# Altium footprint library Linear Technology Operational Amplifiers (LT1000).PcbLib: 46 footprints (part 3 of 3)
Each footprint in its own frame and in the unit in brackets; x right, y up, seen from the top. Pads: shape width x height; smd on the part's side, far side on the other; paste and mask are expansions set on the pad; w line width, h text height; cw(c..) or ccw(c..) is an arc to the next point about the centre after c.
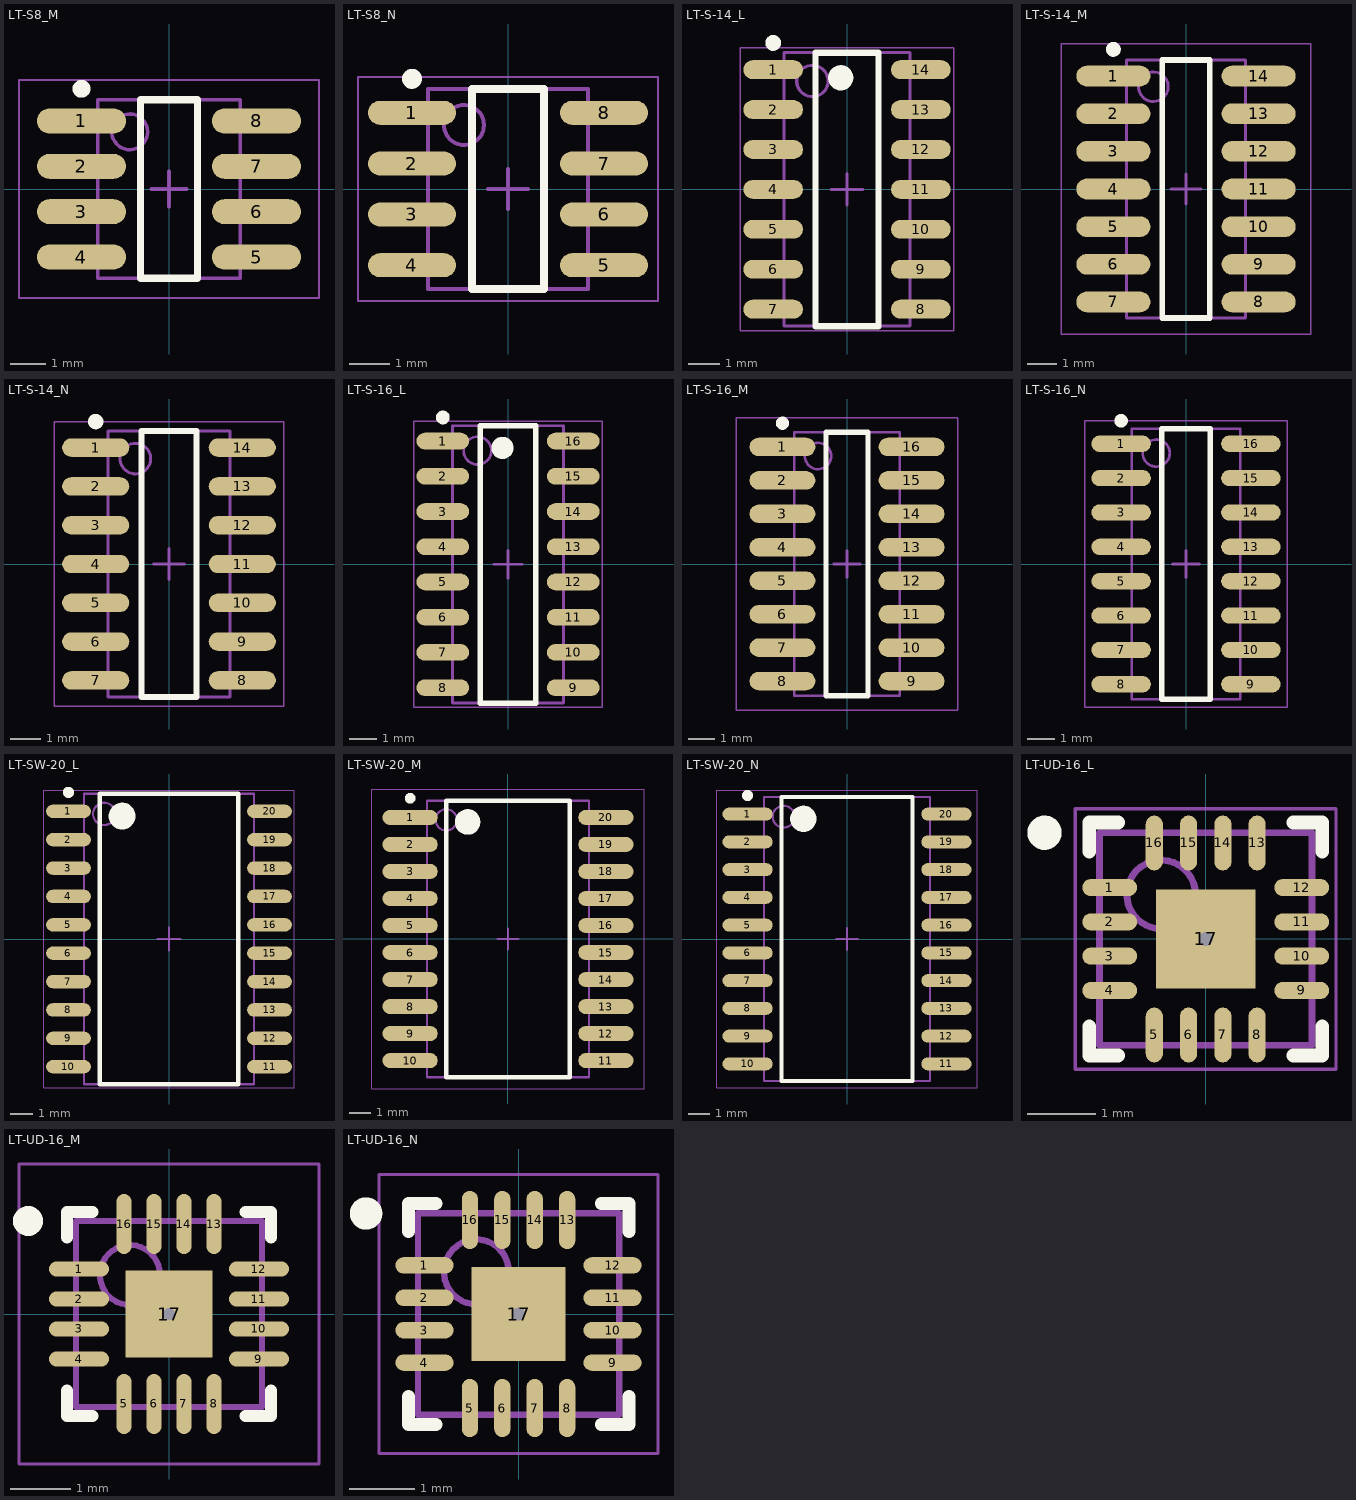
[diagram p2: the footprints below, top view; thin cyan lines are the x and y axes]

## LT-S8_M [mm] "SOP, 8-Leads, Body 4.9x3.9mm, Pitch 1.27mm, IPC Low Density"
height 1.76
pads (8):
  oval 2.5x0.7 smd: 1(-2.45,1.905) 2(-2.45,0.635) 3(-2.45,-0.635) 4(-2.45,-1.905) 5(2.45,-1.905) 6(2.45,-0.635) 7(2.45,0.635) 8(2.45,1.905)
Top Overlay:
  circle w0.25: c-2.45,2.805 r0.125
  lines w0.2: -0.8,-2.5 0.8,-2.5 0.8,2.5 -0.8,2.5 -0.8,-2.5
Mechanical 13:
  circle w0.1: c-1.1,1.6 r0.5
  lines w0.1: -2,-2.5 2,-2.5 2,2.5 -2,2.5 -2,-2.5
Mechanical 15:
  lines w0.05: -4.2,-3.05 4.2,-3.05 4.2,3.05 -4.2,3.05 -4.2,-3.05
  lines w0.1: -0.5,0 0.5,0 ; 0,-0.5 0,0.5
3D body: height 1.76, standoff 0.1, extent -2,-2.5 2,2.5

## LT-S8_N [mm] "SOP, 8-Leads, Body 4.9x3.9mm, Pitch 1.27mm, IPC Medium Density"
height 1.76
pads (8):
  oval 2.2x0.6 smd: 1(-2.4,1.905) 2(-2.4,0.635) 3(-2.4,-0.635) 4(-2.4,-1.905) 5(2.4,-1.905) 6(2.4,-0.635) 7(2.4,0.635) 8(2.4,1.905)
Top Overlay:
  circle w0.25: c-2.4,2.755 r0.125
  lines w0.2: -0.9,-2.5 -0.9,2.5 0.9,2.5 0.9,-2.5 -0.9,-2.5
Mechanical 13:
  circle w0.1: c-1.1,1.6 r0.5
  lines w0.1: -2,-2.5 -2,2.5 2,2.5 2,-2.5 -2,-2.5
Mechanical 15:
  lines w0.05: -3.75,-2.8 -3.75,2.8 3.75,2.8 3.75,-2.8 -3.75,-2.8
  lines w0.1: -0.5,0 0.5,0 ; 0,-0.5 0,0.5
3D body: height 1.76, standoff 0.1, extent -2,-2.5 2,2.5

## LT-S-14_L [mm] "SOIC, 14-Leads, Body 8.65x3.90mm, Pitch 1.27mm, IPC High Density"
height 1.76
pads (14):
  oval 1.9x0.6 smd: 1(-2.35,3.81) 2(-2.35,2.54) 3(-2.35,1.27) 4(-2.35,0) 5(-2.35,-1.27) 6(-2.35,-2.54) 7(-2.35,-3.81) 8(2.35,-3.81) 9(2.35,-2.54) 10(2.35,-1.27) 11(2.35,0) 12(2.35,1.27) 13(2.35,2.54) 14(2.35,3.81)
Top Overlay:
  circle w0.4: c-0.2,3.55 r0.2
  circle w0.25: c-2.35,4.66 r0.125
  lines w0.2: -1,-4.35 1,-4.35 1,4.35 -1,4.35 -1,-4.35
Mechanical 13:
  circle w0.1: c-1.1,3.45 r0.5
  lines w0.1: -2,-4.35 2,-4.35 2,4.35 -2,4.35 -2,-4.35
Mechanical 15:
  lines w0.05: -3.4,-4.5 3.4,-4.5 3.4,4.5 -3.4,4.5 -3.4,-4.5
  lines w0.1: -0.5,0 0.5,0 ; 0,-0.5 0,0.5
3D body: height 1.76, standoff 0.1, extent -2,-4.35 2,4.35

## LT-S-14_M [mm] "SOIC, 14-Leads, Body 8.65x3.90mm, Pitch 1.27mm, IPC Low Density"
height 1.76
pads (14):
  oval 2.5x0.7 smd: 1(-2.45,3.81) 2(-2.45,2.54) 3(-2.45,1.27) 4(-2.45,0) 5(-2.45,-1.27) 6(-2.45,-2.54) 7(-2.45,-3.81) 8(2.45,-3.81) 9(2.45,-2.54) 10(2.45,-1.27) 11(2.45,0) 12(2.45,1.27) 13(2.45,2.54) 14(2.45,3.81)
Top Overlay:
  circle w0.25: c-2.45,4.71 r0.125
  lines w0.2: -0.8,-4.35 -0.8,4.35 0.8,4.35 0.8,-4.35 -0.8,-4.35
Mechanical 13:
  circle w0.1: c-1.1,3.45 r0.5
  lines w0.1: -2,-4.35 -2,4.35 2,4.35 2,-4.35 -2,-4.35
Mechanical 15:
  lines w0.05: -4.2,-4.9 -4.2,4.9 4.2,4.9 4.2,-4.9 -4.2,-4.9
  lines w0.1: -0.5,0 0.5,0 ; 0,-0.5 0,0.5
3D body: height 1.76, standoff 0.1, extent -2,-4.35 2,4.35

## LT-S-14_N [mm] "SOIC, 14-Leads, Body 8.65x3.90mm, Pitch 1.27mm, IPC Medium Density"
height 1.76
pads (14):
  oval 2.2x0.6 smd: 1(-2.4,3.81) 2(-2.4,2.54) 3(-2.4,1.27) 4(-2.4,0) 5(-2.4,-1.27) 6(-2.4,-2.54) 7(-2.4,-3.81) 8(2.4,-3.81) 9(2.4,-2.54) 10(2.4,-1.27) 11(2.4,0) 12(2.4,1.27) 13(2.4,2.54) 14(2.4,3.81)
Top Overlay:
  circle w0.25: c-2.4,4.66 r0.125
  lines w0.2: -0.9,-4.35 -0.9,4.35 0.9,4.35 0.9,-4.35 -0.9,-4.35
Mechanical 13:
  circle w0.1: c-1.1,3.45 r0.5
  lines w0.1: -2,-4.35 -2,4.35 2,4.35 2,-4.35 -2,-4.35
Mechanical 15:
  lines w0.05: -3.75,-4.65 -3.75,4.65 3.75,4.65 3.75,-4.65 -3.75,-4.65
  lines w0.1: -0.5,0 0.5,0 ; 0,-0.5 0,0.5
3D body: height 1.76, standoff 0.1, extent -2,-4.35 2,4.35

## LT-S-16_L [mm] "SOP, 16-Leads, Body 9.9x3.9mm, Pitch 1.27mm, IPC High Density"
height 1.76
pads (16):
  oval 1.9x0.6 smd: 1(-2.35,4.445) 2(-2.35,3.175) 3(-2.35,1.905) 4(-2.35,0.635) 5(-2.35,-0.635) 6(-2.35,-1.905) 7(-2.35,-3.175) 8(-2.35,-4.445) 9(2.35,-4.445) 10(2.35,-3.175) 11(2.35,-1.905) 12(2.35,-0.635) 13(2.35,0.635) 14(2.35,1.905) 15(2.35,3.175) 16(2.35,4.445)
Top Overlay:
  circle w0.25: c-2.35,5.295 r0.125
  circle w0.4: c-0.2,4.2 r0.2
  lines w0.2: -1,-5 -1,5 1,5 1,-5 -1,-5
Mechanical 13:
  circle w0.1: c-1.1,4.1 r0.5
  lines w0.1: -2,-5 -2,5 2,5 2,-5 -2,-5
Mechanical 15:
  lines w0.05: -3.4,-5.15 -3.4,5.15 3.4,5.15 3.4,-5.15 -3.4,-5.15
  lines w0.1: -0.5,0 0.5,0 ; 0,-0.5 0,0.5
3D body: height 1.76, standoff 0.1, extent -2,-5 2,5

## LT-S-16_M [mm] "SOP, 16-Leads, Body 9.9x3.9mm, Pitch 1.27mm, IPC Low Density"
height 1.76
pads (16):
  oval 2.5x0.7 smd: 1(-2.45,4.445) 2(-2.45,3.175) 3(-2.45,1.905) 4(-2.45,0.635) 5(-2.45,-0.635) 6(-2.45,-1.905) 7(-2.45,-3.175) 8(-2.45,-4.445) 9(2.45,-4.445) 10(2.45,-3.175) 11(2.45,-1.905) 12(2.45,-0.635) 13(2.45,0.635) 14(2.45,1.905) 15(2.45,3.175) 16(2.45,4.445)
Top Overlay:
  circle w0.25: c-2.45,5.345 r0.125
  lines w0.2: -0.8,-5 -0.8,5 0.8,5 0.8,-5 -0.8,-5
Mechanical 13:
  circle w0.1: c-1.1,4.1 r0.5
  lines w0.1: -2,-5 -2,5 2,5 2,-5 -2,-5
Mechanical 15:
  lines w0.05: -4.2,-5.55 -4.2,5.55 4.2,5.55 4.2,-5.55 -4.2,-5.55
  lines w0.1: -0.5,0 0.5,0 ; 0,-0.5 0,0.5
3D body: height 1.76, standoff 0.1, extent -2,-5 2,5

## LT-S-16_N [mm] "SOP, 16-Leads, Body 9.9x3.9mm, Pitch 1.27mm, IPC Medium Density"
height 1.76
pads (16):
  oval 2.2x0.6 smd: 1(-2.4,4.445) 2(-2.4,3.175) 3(-2.4,1.905) 4(-2.4,0.635) 5(-2.4,-0.635) 6(-2.4,-1.905) 7(-2.4,-3.175) 8(-2.4,-4.445) 9(2.4,-4.445) 10(2.4,-3.175) 11(2.4,-1.905) 12(2.4,-0.635) 13(2.4,0.635) 14(2.4,1.905) 15(2.4,3.175) 16(2.4,4.445)
Top Overlay:
  circle w0.25: c-2.4,5.295 r0.125
  lines w0.2: -0.9,-5 -0.9,5 0.9,5 0.9,-5 -0.9,-5
Mechanical 13:
  circle w0.1: c-1.1,4.1 r0.5
  lines w0.1: -2,-5 -2,5 2,5 2,-5 -2,-5
Mechanical 15:
  lines w0.05: -3.75,-5.3 -3.75,5.3 3.75,5.3 3.75,-5.3 -3.75,-5.3
  lines w0.1: -0.5,0 0.5,0 ; 0,-0.5 0,0.5
3D body: height 1.76, standoff 0.1, extent -2,-5 2,5

## LT-SW-20_L [mm] "SOIC, 20-Leads, Body 12.8x7.49mm, Pitch 1.27mm, IPC High Density"
height 2.65
pads (20):
  oval 2x0.6 smd: 1(-4.5,5.715) 2(-4.5,4.445) 3(-4.5,3.175) 4(-4.5,1.905) 5(-4.5,0.635) 6(-4.5,-0.635) 7(-4.5,-1.905) 8(-4.5,-3.175) 9(-4.5,-4.445) 10(-4.5,-5.715) 11(4.5,-5.715) 12(4.5,-4.445) 13(4.5,-3.175) 14(4.5,-1.905) 15(4.5,-0.635) 16(4.5,0.635) 17(4.5,1.905) 18(4.5,3.175) 19(4.5,4.445) 20(4.5,5.715)
Top Overlay:
  circle w0.6: c-2.1,5.5 r0.3
  circle w0.25: c-4.5,6.565 r0.125
  lines w0.2: -3.1,-6.5 3.1,-6.5 3.1,6.5 -3.1,6.5 -3.1,-6.5
Mechanical 13:
  circle w0.1: c-2.9,5.6 r0.5
  lines w0.1: -3.8,-6.5 3.8,-6.5 3.8,6.5 -3.8,6.5 -3.8,-6.5
Mechanical 15:
  lines w0.05: -5.6,-6.65 5.6,-6.65 5.6,6.65 -5.6,6.65 -5.6,-6.65
  lines w0.1: -0.5,0 0.5,0 ; 0,-0.5 0,0.5
3D body: height 2.65, standoff 0.1, extent -3.8,-6.5 3.8,6.5

## LT-SW-20_M [mm] "SOIC, 20-Leads, Body 12.8x7.49mm, Pitch 1.27mm, IPC Low Density"
height 2.65
pads (20):
  oval 2.6x0.7 smd: 1(-4.6,5.715) 2(-4.6,4.445) 3(-4.6,3.175) 4(-4.6,1.905) 5(-4.6,0.635) 6(-4.6,-0.635) 7(-4.6,-1.905) 8(-4.6,-3.175) 9(-4.6,-4.445) 10(-4.6,-5.715) 11(4.6,-5.715) 12(4.6,-4.445) 13(4.6,-3.175) 14(4.6,-1.905) 15(4.6,-0.635) 16(4.6,0.635) 17(4.6,1.905) 18(4.6,3.175) 19(4.6,4.445) 20(4.6,5.715)
Top Overlay:
  circle w0.6: c-1.9,5.5 r0.3
  circle w0.25: c-4.6,6.615 r0.125
  lines w0.2: -2.9,-6.5 2.9,-6.5 2.9,6.5 -2.9,6.5 -2.9,-6.5
Mechanical 13:
  circle w0.1: c-2.9,5.6 r0.5
  lines w0.1: -3.8,-6.5 3.8,-6.5 3.8,6.5 -3.8,6.5 -3.8,-6.5
Mechanical 15:
  lines w0.05: -6.4,-7.05 6.4,-7.05 6.4,7.05 -6.4,7.05 -6.4,-7.05
  lines w0.1: -0.5,0 0.5,0 ; 0,-0.5 0,0.5
3D body: height 2.65, standoff 0.1, extent -3.8,-6.5 3.8,6.5

## LT-SW-20_N [mm] "SOIC, 20-Leads, Body 12.8x7.49mm, Pitch 1.27mm, IPC Medium Density"
height 2.65
pads (20):
  oval 2.3x0.6 smd: 1(-4.55,5.715) 2(-4.55,4.445) 3(-4.55,3.175) 4(-4.55,1.905) 5(-4.55,0.635) 6(-4.55,-0.635) 7(-4.55,-1.905) 8(-4.55,-3.175) 9(-4.55,-4.445) 10(-4.55,-5.715) 11(4.55,-5.715) 12(4.55,-4.445) 13(4.55,-3.175) 14(4.55,-1.905) 15(4.55,-0.635) 16(4.55,0.635) 17(4.55,1.905) 18(4.55,3.175) 19(4.55,4.445) 20(4.55,5.715)
Top Overlay:
  circle w0.6: c-2,5.5 r0.3
  circle w0.25: c-4.55,6.565 r0.125
  lines w0.2: -3,-6.5 3,-6.5 3,6.5 -3,6.5 -3,-6.5
Mechanical 13:
  circle w0.1: c-2.9,5.6 r0.5
  lines w0.1: -3.8,-6.5 3.8,-6.5 3.8,6.5 -3.8,6.5 -3.8,-6.5
Mechanical 15:
  lines w0.05: -5.95,-6.8 5.95,-6.8 5.95,6.8 -5.95,6.8 -5.95,-6.8
  lines w0.1: -0.5,0 0.5,0 ; 0,-0.5 0,0.5
3D body: height 2.65, standoff 0.1, extent -3.8,-6.5 3.8,6.5

## LT-UD-16_L [mm] "QFN, 16-Leads, Body 3x3mm, Pitch 0.5mm, Thermal Pad 1.45x1.45mm, IPC High Density"
height 0.8
pads (17):
  oval 0.8x0.25 smd: 1(-1.4,0.75) 2(-1.4,0.25) 3(-1.4,-0.25) 4(-1.4,-0.75) 9(1.4,-0.75) 10(1.4,-0.25) 11(1.4,0.25) 12(1.4,0.75)
  oval 0.25x0.8 smd: 5(-0.75,-1.4) 6(-0.25,-1.4) 7(0.25,-1.4) 8(0.75,-1.4) 13(0.75,1.4) 14(0.25,1.4) 15(-0.25,1.4) 16(-0.75,1.4)
  rect 1.45x1.45 smd: 17(0,0)
via 0,0 diameter 0.5 hole 0.2
Top Overlay:
  circle w0.25: c-2.35,1.55 r0.125
  lines w0.2: -1.7,-1.275 -1.7,-1.7 -1.275,-1.7 ; -1.7,1.275 -1.7,1.7 -1.275,1.7 ; 1.275,-1.7 1.7,-1.7 1.7,-1.275 ; 1.275,1.7 1.7,1.7 1.7,1.275
Mechanical 13:
  circle w0.1: c-0.65,0.65 r0.5
  lines w0.1: -1.55,-1.55 1.55,-1.55 1.55,1.55 -1.55,1.55 -1.55,-1.55
Mechanical 15:
  lines w0.05: -1.9,-1.9 1.9,-1.9 1.9,1.9 -1.9,1.9 -1.9,-1.9
  lines w0.1: -0.5,0 0.5,0 ; 0,-0.5 0,0.5
3D body: height 0.8, standoff 0, extent -1.55,-1.55 1.55,1.55

## LT-UD-16_M [mm] "QFN, 16-Leads, Body 3x3mm, Pitch 0.5mm, Thermal Pad 1.45x1.45mm, IPC Low Density"
height 0.8
pads (17):
  oval 1x0.25 smd: 1(-1.5,0.75) 2(-1.5,0.25) 3(-1.5,-0.25) 4(-1.5,-0.75) 9(1.5,-0.75) 10(1.5,-0.25) 11(1.5,0.25) 12(1.5,0.75)
  oval 0.25x1 smd: 5(-0.75,-1.5) 6(-0.25,-1.5) 7(0.25,-1.5) 8(0.75,-1.5) 13(0.75,1.5) 14(0.25,1.5) 15(-0.25,1.5) 16(-0.75,1.5)
  rect 1.45x1.45 smd: 17(0,0)
via 0,0 diameter 0.5 hole 0.2
Top Overlay:
  circle w0.25: c-2.35,1.55 r0.125
  lines w0.2: -1.7,-1.275 -1.7,-1.7 -1.275,-1.7 ; -1.7,1.275 -1.7,1.7 -1.275,1.7 ; 1.275,-1.7 1.7,-1.7 1.7,-1.275 ; 1.275,1.7 1.7,1.7 1.7,1.275
Mechanical 13:
  circle w0.1: c-0.65,0.65 r0.5
  lines w0.1: -1.55,-1.55 1.55,-1.55 1.55,1.55 -1.55,1.55 -1.55,-1.55
Mechanical 15:
  lines w0.05: -2.5,-2.5 2.5,-2.5 2.5,2.5 -2.5,2.5 -2.5,-2.5
  lines w0.1: -0.5,0 0.5,0 ; 0,-0.5 0,0.5
3D body: height 0.8, standoff 0, extent -1.55,-1.55 1.55,1.55

## LT-UD-16_N [mm] "QFN, 16-Leads, Body 3x3mm, Pitch 0.5mm, Thermal Pad 1.45x1.45mm, IPC Medium Density"
height 0.8
pads (17):
  oval 0.9x0.25 smd: 1(-1.45,0.75) 2(-1.45,0.25) 3(-1.45,-0.25) 4(-1.45,-0.75) 9(1.45,-0.75) 10(1.45,-0.25) 11(1.45,0.25) 12(1.45,0.75)
  oval 0.25x0.9 smd: 5(-0.75,-1.45) 6(-0.25,-1.45) 7(0.25,-1.45) 8(0.75,-1.45) 13(0.75,1.45) 14(0.25,1.45) 15(-0.25,1.45) 16(-0.75,1.45)
  rect 1.45x1.45 smd: 17(0,0)
via 0,0 diameter 0.5 hole 0.2
Top Overlay:
  circle w0.25: c-2.35,1.55 r0.125
  lines w0.2: -1.7,-1.275 -1.7,-1.7 -1.275,-1.7 ; -1.7,1.275 -1.7,1.7 -1.275,1.7 ; 1.275,-1.7 1.7,-1.7 1.7,-1.275 ; 1.275,1.7 1.7,1.7 1.7,1.275
Mechanical 13:
  circle w0.1: c-0.65,0.65 r0.5
  lines w0.1: -1.55,-1.55 1.55,-1.55 1.55,1.55 -1.55,1.55 -1.55,-1.55
Mechanical 15:
  lines w0.05: -2.15,-2.15 2.15,-2.15 2.15,2.15 -2.15,2.15 -2.15,-2.15
  lines w0.1: -0.5,0 0.5,0 ; 0,-0.5 0,0.5
3D body: height 0.8, standoff 0, extent -1.55,-1.55 1.55,1.55